# EAGLE library part ONSEMI-LAKOTA (library mbed-HDK-MF-ONSEMI)
Lakota RF Module 1.0
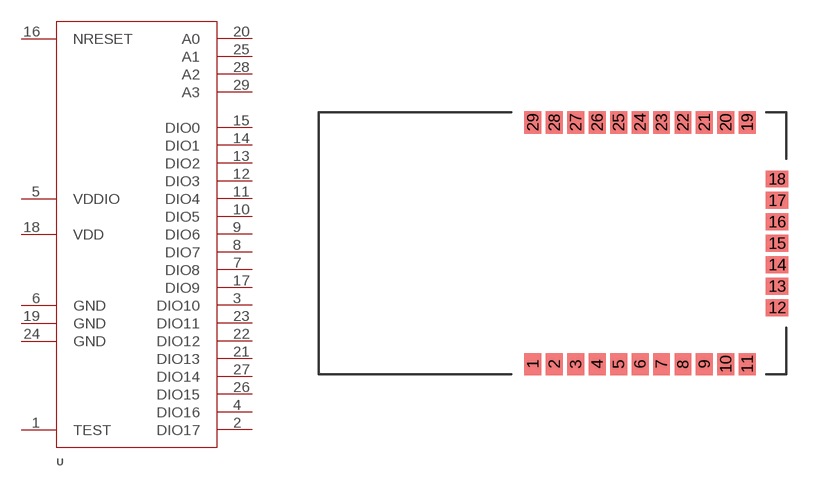
[diagram p0: symbol with the pads of ONSEMI-LAKOTA; footprint ONSEMI-LAKOTA]

Designator prefix U

## ONSEMI-LAKOTA  [ONSEMI-LAKOTA]
1  TEST
2  DIO17
3  DIO10
4  DIO16
5  VDDIO
6  GND
7  DIO8
8  DIO7
9  DIO6
10  DIO5
11  DIO4
12  DIO3
13  DIO2
14  DIO1
15  DIO0
16  NRESET
17  DIO9
18  VDD
19  GND
20  A0
21  DIO13
22  DIO12
23  DIO11
24  GND
25  A1
26  DIO15
27  DIO14
28  A2
29  A3

## Footprint ONSEMI-LAKOTA (pad centres in mm)
smd 1 x 1.32: 1 12.7,-7.16; 2 13.97,-7.16; 3 15.24,-7.16; 4 16.51,-7.16; 5 17.78,-7.16; 6 19.05,-7.16; 7 20.32,-7.16; 8 21.59,-7.16; 9 22.86,-7.16; 10 24.13,-7.16; 11 25.4,-7.16; 19 25.4,7.16; 20 24.13,7.16; 21 22.86,7.16; 22 21.59,7.16; 23 20.32,7.16; 24 19.05,7.16; 25 17.78,7.16; 26 16.51,7.16; 27 15.24,7.16; 28 13.97,7.16; 29 12.7,7.16
smd 1.32 x 1: 12 27.165,-3.81; 13 27.165,-2.54; 14 27.165,-1.27; 15 27.165,0; 16 27.165,1.27; 17 27.165,2.54; 18 27.165,3.81